# EAGLE library part PLCC-6-RGB-SAMSUNG (library untitled)
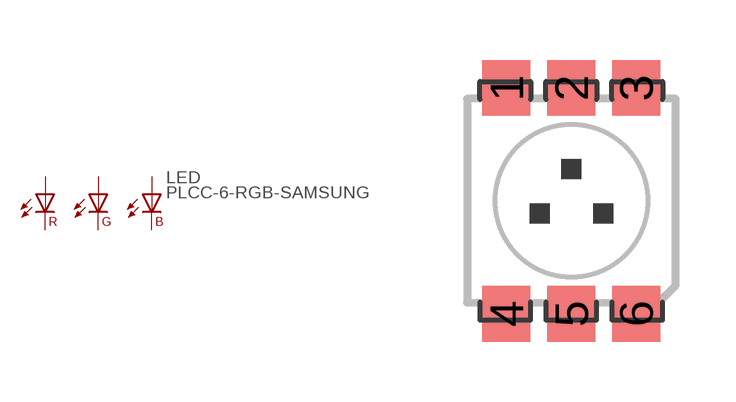
[diagram p0: symbol with the pads of PLCC-6_SAMSUNG; footprint PLCC-6_SAMSUNG]

Designator prefix LED

## PLCC-6-RGB-SAMSUNG  [PLCC-6_SAMSUNG]
1  AR  pas
2  AG  pas
3  AB  pas
4  CR  pas
5  CG  pas
6  CB  pas

## Footprint PLCC-6_SAMSUNG (pad centres in mm)
smd 1.2 x 1.4: 1 -1.619,2.826; 2 0,2.826; 3 1.619,2.826; 4 -1.619,-2.826; 5 0,-2.826; 6 1.619,-2.826